# Altium schematic symbol library AD5933.SchLib: 1 symbol
Pins are listed as number, name and electrical type; pins without a type are passive.

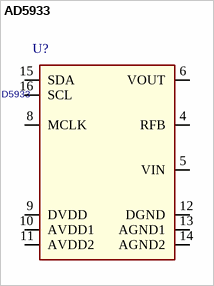
[diagram p0: symbol AD5933]

## AD5933
designator U?
PDF: http://www.analog.com/static/imported-files/data_sheets/AD5933.pdf; PRICE: *; ID: AD5933; BUY_LINK: *
footprint SSOP16
pins: 4 RFB, 5 VIN, 6 VOUT, 8 MCLK, 9 DVDD, 10 AVDD1, 11 AVDD2, 12 DGND, 13 AGND1, 14 AGND2, 15 SDA, 16 SCL